# EAGLE library part ACS714 (library Particulates)
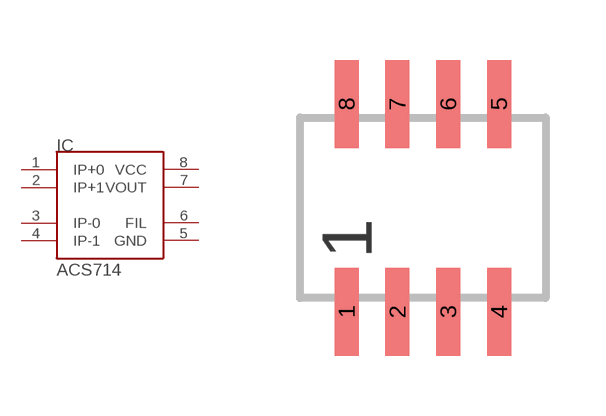
[diagram p0: symbol with the pads of SOP08; footprint SOP08]

Designator prefix IC

## ACS714SOIC8  [SOP08]
1  IP+0
2  IP+1
3  IP-0
4  IP-1
5  GND  pwr
6  FIL  in
7  VOUT  out
8  VCC  pwr

## Footprint SOP08 (pad centres in mm)
SMALL OUTLINE PACKAGE
smd 0.6 x 2.2: 1 -1.905,-2.6; 2 -0.635,-2.6; 3 0.635,-2.6; 4 1.905,-2.6; 5 1.905,2.6; 6 0.635,2.6; 7 -0.635,2.6; 8 -1.905,2.6